# EAGLE library part WE-BOARD_BREAKOUT (library BME280-Breakout_v10)
Breakout Template
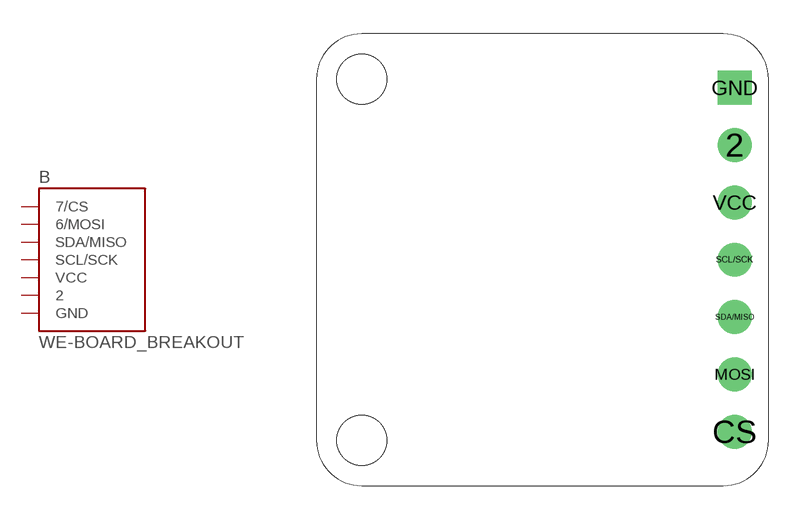
[diagram p0: symbol with the pads of WE-BOARD_BREAKOUT-20X20; footprint WE-BOARD_BREAKOUT-20X20]

Designator prefix B

## WE-BOARD_BREAKOUT-20X20  [WE-BOARD_BREAKOUT-20X20]
2  2
CS  7/CS
GND  GND  pwr
MOSI  6/MOSI
SCL/SCK  SCL/SCK
SDA/MISO  SDA/MISO
VCC  VCC  pwr

## Footprint WE-BOARD_BREAKOUT-20X20 (pad centres in mm)
drill 0.9 pad 1.5: 2 18.5,15.08; CS 18.5,2.38; MOSI 18.5,4.92; SCL/SCK 18.5,10; SDA/MISO 18.5,7.46; VCC 18.5,12.54
drill 0.9 pad 1.5 square: GND 18.5,17.62
hole 2.2 at 2,18
hole 2.2 at 2,2